# Altium footprint library 7.接插件封装.PcbLib: 201 footprints (part 10 of 13)
Each footprint in its own frame and in the unit in brackets; x right, y up, seen from the top. Pads: shape width x height; smd on the part's side, far side on the other; paste and mask are expansions set on the pad; w line width, h text height; cw(c..) or ccw(c..) is an arc to the next point about the centre after c.
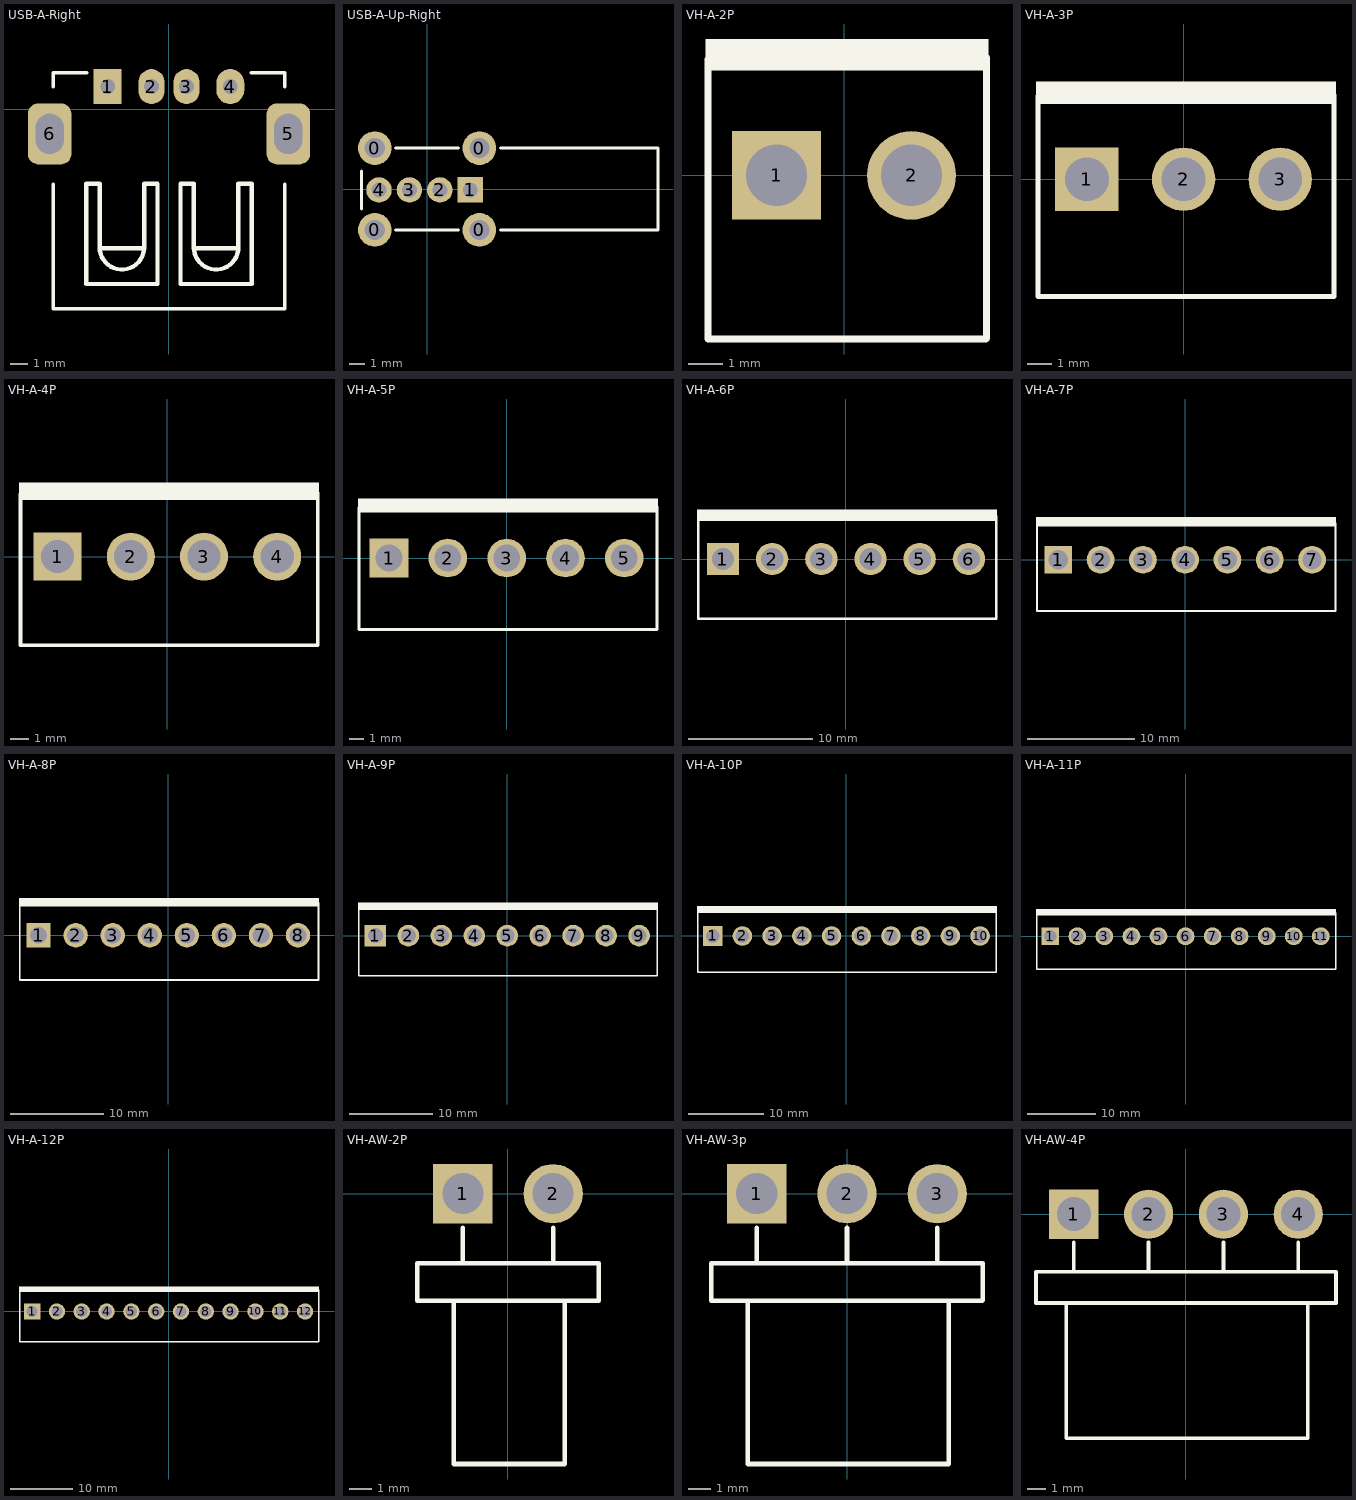
[diagram p9: the footprints below, top view; thin cyan lines are the x and y axes]

## USB-A-Right [mm]
pads (6):
  rect 1.6x2 hole 0.85: 1(-3.5,1.3)
  oval 1.5x2 hole 0.85: 2(-1,1.3) 3(1,1.3)
  oval 1.6x2 hole 0.85: 4(3.5,1.3)
  rrect50% 2.5x3.5 hole 1.6 slot 2.3 at 90 deg: 5(6.82,-1.402) 6(-6.82,-1.402)
Top Overlay:
  lines w0.2: -6.62,-11.4 -6.62,-4.288 ; -6.6,-11.4 6.6,-11.4 ; -6.6,1.3 -6.6,2.1 -4.699,2.1 ; 4.703,2.1 6.6,2.1 6.6,1.3 ; 6.62,-11.4 6.62,-4.288
  lines w0.25: -3.912,-7.927 -1.473,-7.927 ; -0.661,-9.975 -4.725,-9.975 -4.725,-4.244 -3.963,-4.244 -3.963,-7.896 ccw(c-2.693,-7.883) -1.423,-7.896 -1.423,-4.244 -0.66,-4.244 -0.66,-9.959 ; 1.473,-7.927 3.911,-7.927 ; 4.724,-9.975 0.66,-9.975 0.66,-4.244 1.422,-4.244 1.422,-7.896 ccw(c2.692,-7.883) 3.962,-7.896 3.962,-4.244 4.724,-4.244 4.724,-9.959

## USB-A-Up-Right [mm]
height 0.65
pads (8):
  round 2.25 hole 1.35: 0(-3.492,-2.73) 0(-3.492,2.73) 0(3.492,-2.73) 0(3.492,2.73)
  rect 1.7x1.7 hole 1: 1(2.883,-0.064)
  round 1.7 hole 1: 2(0.851,-0.064) 3(-1.181,-0.064) 4(-3.213,-0.064)
Top Overlay:
  lines w0.2: -4.4,-1.34 -4.4,1.2 ; -2.095,-2.73 2.095,-2.73 ; -2.095,2.73 2.095,2.73 ; 4.889,-2.73 15.43,-2.73 15.43,2.73 4.889,2.73

## VH-A-2P [mm]
pads (2):
  rect 2.6x2.6 hole 1.8: 1(-1.98,0)
  round 2.6 hole 1.8: 2(1.98,0)
Top Overlay:
  rectangle: -4.068,3.074 4.242,4
  lines w0.2: -3.987,3.404 -3.987,-4.801 4.166,-4.801 4.181,-4.786 4.181,3.454

## VH-A-3P [mm]
pads (3):
  rect 2.6x2.6 hole 1.8: 1(-3.96,0)
  round 2.6 hole 1.8: 2(0,0) 3(3.96,0)
Top Overlay:
  rectangle: -6.048,3.074 6.246,4
  lines w0.2: -5.967,3.404 -5.967,-4.801 6.144,-4.801 ; 6.161,-4.801 6.161,3.454

## VH-A-4P [mm]
pads (4):
  rect 2.6x2.6 hole 1.8: 1(-5.94,0)
  round 2.6 hole 1.8: 2(-1.98,0) 3(1.98,0) 4(5.94,0)
Top Overlay:
  rectangle: -8.028,3.074 8.203,4
  lines w0.2: -7.947,3.404 -7.947,-4.801 8.141,-4.801 8.141,3.454

## VH-A-5P [mm]
pads (5):
  rect 2.6x2.6 hole 1.8: 1(-7.92,0)
  round 2.6 hole 1.8: 2(-3.96,0) 3(0,0) 4(3.96,0) 5(7.92,0)
Top Overlay:
  rectangle: -10.008,3.074 10.185,4
  lines w0.2: -9.927,3.404 -9.927,-4.801 10.121,-4.801 10.121,3.454

## VH-A-6P [mm]
pads (6):
  rect 2.6x2.6 hole 1.8: 1(-9.9,0)
  round 2.6 hole 1.8: 2(-5.94,0) 3(-1.98,0) 4(1.98,0) 5(5.94,0) 6(9.9,0)
Top Overlay:
  rectangle: -11.991,3.074 12.167,4
  lines w0.2: -11.907,3.404 -11.907,-4.8 12.101,-4.8 12.101,3.454

## VH-A-7P [mm]
pads (7):
  rect 2.6x2.6 hole 1.8: 1(-11.88,0)
  round 2.6 hole 1.8: 2(-7.92,0) 3(-3.96,0) 4(0,0) 5(3.96,0) 6(7.92,0) 7(11.88,0)
Top Overlay:
  rectangle: -13.97,3.124 14.122,4
  lines w0.2: -13.887,3.404 -13.887,-4.8 14.06,-4.8 14.06,3.454

## VH-A-8P [mm]
pads (8):
  rect 2.6x2.6 hole 1.8: 1(-13.86,0)
  round 2.6 hole 1.8: 2(-9.9,0) 3(-5.94,0) 4(-1.98,0) 5(1.98,0) 6(5.94,0) 7(9.9,0) 8(13.86,0)
Top Overlay:
  rectangle: -15.951,3.074 16.104,4
  lines w0.2: -15.867,3.404 -15.867,-4.8 16.04,-4.8 16.04,3.454

## VH-A-9P [mm]
pads (9):
  rect 2.6x2.6 hole 1.8: 1(-15.84,0)
  round 2.6 hole 1.8: 2(-11.88,0) 3(-7.92,0) 4(-3.96,0) 5(0,0) 6(3.96,0) 7(7.92,0) 8(11.88,0) 9(15.84,0)
Top Overlay:
  rectangle: -17.931,3.074 18.111,4
  lines w0.2: -17.847,3.404 -17.847,-4.8 18.02,-4.8 18.02,3.454

## VH-A-10P [mm]
pads (10):
  rect 2.6x2.6 hole 1.8: 1(-17.82,0)
  round 2.6 hole 1.8: 2(-13.86,0) 3(-9.9,0) 4(-5.94,0) 5(-1.98,0) 6(1.98,0) 7(5.94,0) 8(9.9,0) 9(13.86,0) 10(17.82,0)
Top Overlay:
  rectangle: -19.911,3.074 20.067,4
  lines w0.2: -19.827,3.404 -19.827,-4.8 20,-4.8 20,3.454

## VH-A-11P [mm]
pads (11):
  rect 2.6x2.6 hole 1.8: 1(-19.8,0)
  round 2.6 hole 1.8: 2(-15.84,0) 3(-11.88,0) 4(-7.92,0) 5(-3.96,0) 6(0,0) 7(3.96,0) 8(7.92,0) 9(11.88,0) 10(15.84,0) 11(19.8,0)
Top Overlay:
  rectangle: -21.891,3.074 22.023,4
  lines w0.2: -21.807,3.404 -21.807,-4.8 21.972,-4.8 ; 21.98,-4.8 21.98,3.454

## VH-A-12P [mm]
pads (12):
  rect 2.6x2.6 hole 1.8: 1(-21.78,0)
  round 2.6 hole 1.8: 2(-17.82,0) 3(-13.86,0) 4(-9.9,0) 5(-5.94,0) 6(-1.98,0) 7(1.98,0) 8(5.94,0) 9(9.9,0) 10(13.86,0) 11(17.82,0) 12(21.78,0)
Top Overlay:
  rectangle: -23.871,3.074 24.004,4
  lines w0.2: -23.787,3.404 -23.787,-4.8 23.96,-4.8 23.96,3.454

## VH-AW-2P [mm]
height 1.4
pads (2):
  rect 2.6x2.6 hole 1.8: 1(-1.98,0)
  round 2.6 hole 1.8: 2(1.98,0)
Top Overlay:
  lines w0.2: -3.98,-4.7 -3.98,-3.048 3.98,-3.048 3.98,-4.7 -3.961,-4.7 ; -2.376,-4.699 -2.376,-11.862 2.464,-11.862 ; -1.98,-3.048 -1.98,-1.5 ; 1.98,-3.048 1.98,-1.5 ; 2.488,-11.862 2.488,-4.724

## VH-AW-3p [mm]
height 1.4
pads (3):
  rect 2.6x2.6 hole 1.8: 1(-3.96,0)
  round 2.6 hole 1.8: 2(0,0) 3(3.96,0)
Top Overlay:
  lines w0.2: -5.96,-4.7 -5.96,-3.048 5.942,-3.048 ; -5.941,-4.7 5.941,-4.7 5.96,-4.681 5.96,-3.057 5.951,-3.048 ; -4.356,-4.699 -4.356,-11.862 4.469,-11.862 ; -3.96,-3.048 -3.96,-1.5 ; 0,-3.048 0,-1.5 ; 3.96,-3.048 3.96,-1.5 ; 4.468,-11.862 4.468,-4.724

## VH-AW-4P [mm]
height 1.4
pads (4):
  rect 2.6x2.6 hole 1.8: 1(-5.94,0)
  round 2.6 hole 1.8: 2(-1.98,0) 3(1.98,0) 4(5.94,0)
Top Overlay:
  lines w0.2: -7.94,-4.7 -7.94,-3.048 7.924,-3.048 ; -7.921,-4.7 7.924,-4.7 ; -6.336,-4.699 -6.336,-11.862 6.45,-11.862 ; -5.94,-3.048 -5.94,-1.5 ; -1.98,-3.048 -1.98,-1.5 ; 1.98,-3.048 1.98,-1.5 ; 6.448,-11.862 6.448,-4.724 ; 7.931,-3.048 7.94,-3.057 7.94,-4.7 ; 5.94,-3.048 5.94,-1.5 5.94,-3.048